# EAGLE library part SWITCHREG-LM2674 (library jt_parts)
Texas Instrument LM2674 switching voltage regulator.
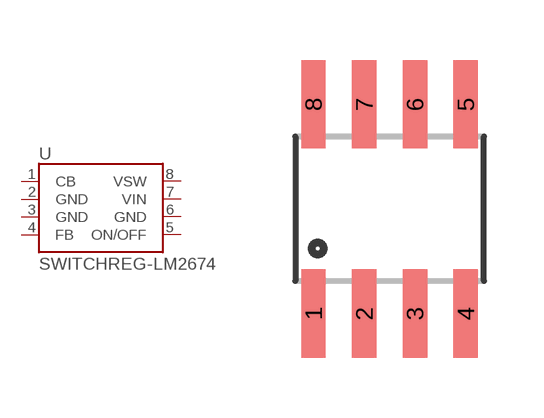
[diagram p3: symbol with the pads of SOIC-8; footprint SOIC-8]

Designator prefix -

## SWITCHREG-LM2674  [SOIC-8]
1  CB
2  GND
3  GND
4  FB
5  ON/OFF
6  GND
7  VIN
8  VSW

## Footprint SOIC-8 (pad centres in mm)
smd 0.61 x 2.21: 1 -1.905,-2.616; 2 -0.635,-2.616; 3 0.635,-2.616; 4 1.905,-2.616; 5 1.905,2.616; 6 0.635,2.616; 7 -0.635,2.616; 8 -1.905,2.616